# Altium footprint library TPS22860DBVR.PcbLib: 1 footprints
Each footprint in its own frame and in the unit in brackets; x right, y up, seen from the top. Pads: shape width x height; smd on the part's side, far side on the other; paste and mask are expansions set on the pad; w line width, h text height; cw(c..) or ccw(c..) is an arc to the next point about the centre after c.
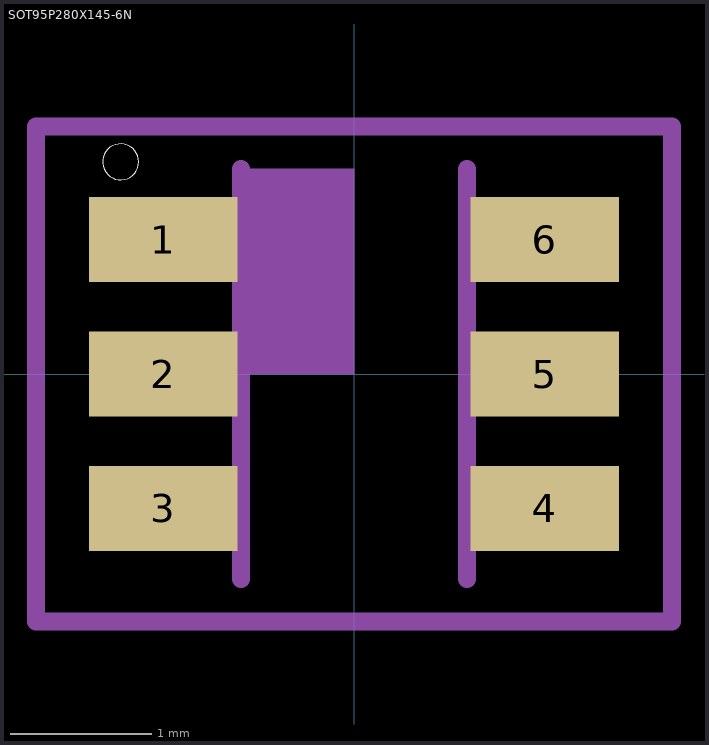
[diagram p0: the footprint, top view; thin cyan lines are the x and y axes]

## SOT95P280X145-6N [mm]
pads (6):
  rect 1.05x0.6 smd: 1(-1.35,0.95) 2(-1.35,0) 3(-1.35,-0.95) 4(1.35,-0.95) 5(1.35,0) 6(1.35,0.95)
Top Overlay:
  circle w0: c-1.65,1.5 r0.127
Top Paste:
  region: 0.85,-0.675 1.85,-0.675 1.85,-1.226 0.85,-1.226
  region: 0.852,0.275 1.85,0.275 1.85,-0.276 0.852,-0.276
  region: 0.851,1.225 1.85,1.225 1.85,0.676 0.851,0.676
  region: -1.851,-0.675 -0.85,-0.675 -0.85,-1.226 -1.851,-1.226
  region: -1.853,0.275 -0.85,0.275 -0.85,-0.275 -1.853,-0.275
  region: -1.852,1.225 -0.85,1.225 -0.85,0.676 -1.852,0.676
Top Solder:
  region: 0.756,-0.58 1.945,-0.58 1.945,-1.321 0.756,-1.321
  region: 0.756,0.37 1.945,0.37 1.945,-0.371 0.756,-0.371
  region: 0.756,1.32 1.945,1.32 1.945,0.581 0.756,0.581
  region: -1.946,-0.58 -0.755,-0.58 -0.755,-1.32 -1.946,-1.32
  region: -1.947,0.37 -0.755,0.37 -0.755,-0.37 -1.947,-0.37
  region: -1.946,1.32 -0.755,1.32 -0.755,0.58 -1.946,0.58
Mechanical 1:
  region: -0.801,1.45 0,1.45 0,0 -0.801,0
  lines w0.127: -0.8,-1.45 -0.8,1.45 ; 0.8,-1.45 0.8,1.45
Mechanical 4:
  lines w0.127: -2.25,-1.75 -2.25,1.75 2.25,1.75 2.25,-1.75 -2.25,-1.75